# EAGLE library part XC2C64A-7VQG44I (library XC2C64A-7VQG44I)
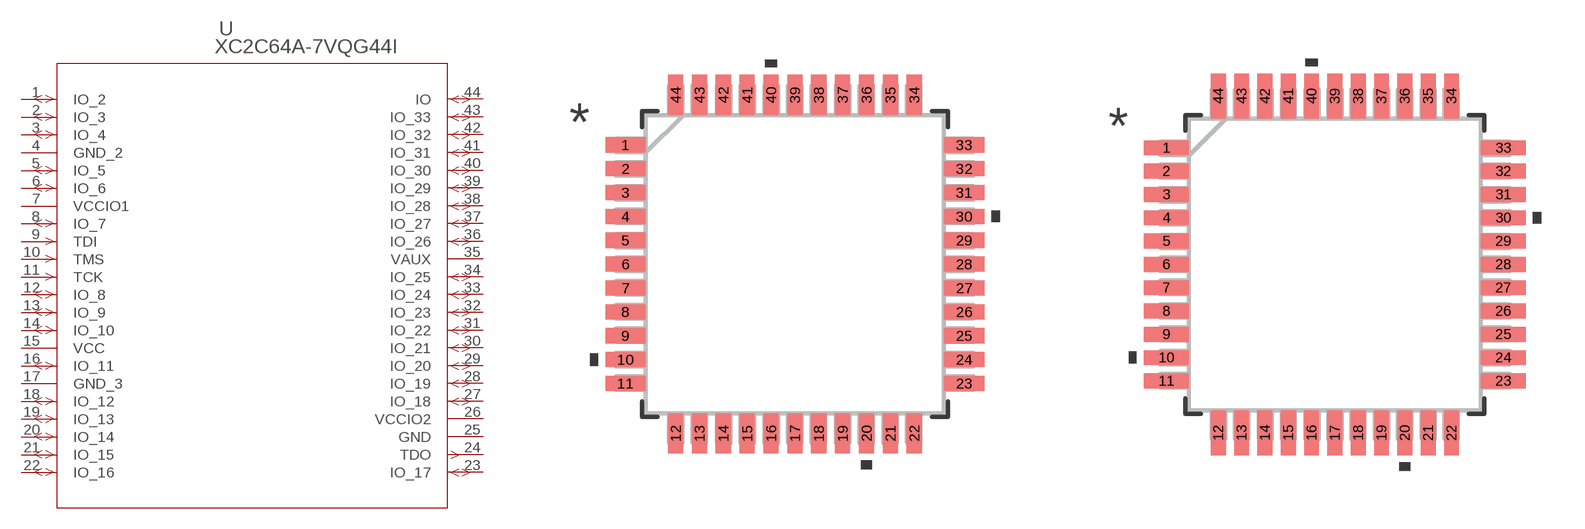
[diagram p0: symbol with the pads of 44-VQFP_XIL; footprints 44-VQFP_XIL, 44-VQFP_XIL-M]

Designator prefix U

## XC2C64A-7VQG44I (COPYRIGHT: Copyright (C) 2021 Ultra Librarian. All rights reserved.; DIGI-KEY_PART_NUMBER_1: 122-1708-ND; DIGI-KEY_PART_NUMBER_2: XLCC-1042-ND; DIGI-KEY_PART_NUMBER_3: XLCC-1061-ND; DIGI-KEY_PART_NUMBER_4: XLCC-1062-ND; DIGI-KEY_PART_NUMBER_5: XLCC-1065-ND; DIGI-KEY_PART_NUMBER_6: XLCC-1066-ND; MANUFACTURER_PART_NUMBER: XC2C64A-7VQG44I; MFR_NAME: Xilinx Inc)  [44-VQFP_XIL]
1  IO_2
2  IO_3
3  IO_4
4  GND_2  pwr
5  IO_5
6  IO_6
7  VCCIO1  pwr
8  IO_7
9  TDI  in
10  TMS  in
11  TCK  in
12  IO_8
13  IO_9
14  IO_10
15  VCC  pwr
16  IO_11
17  GND_3  pwr
18  IO_12
19  IO_13
20  IO_14
21  IO_15
22  IO_16
23  IO_17
24  TDO  out
25  GND  pwr
26  VCCIO2  pwr
27  IO_18
28  IO_19
29  IO_20
30  IO_21
31  IO_22
32  IO_23
33  IO_24
34  IO_25
35  VAUX  pwr
36  IO_26
37  IO_27
38  IO_28
39  IO_29
40  IO_30
41  IO_31
42  IO_32
43  IO_33
44  IO

## XC2C64A-7VQG44I44-VQFP_XIL-M (COPYRIGHT: Copyright (C) 2021 Ultra Librarian. All rights reserved.; DIGI-KEY_PART_NUMBER_1: 122-1708-ND; DIGI-KEY_PART_NUMBER_2: XLCC-1042-ND; DIGI-KEY_PART_NUMBER_3: XLCC-1061-ND; DIGI-KEY_PART_NUMBER_4: XLCC-1062-ND; DIGI-KEY_PART_NUMBER_5: XLCC-1065-ND; DIGI-KEY_PART_NUMBER_6: XLCC-1066-ND; MANUFACTURER_PART_NUMBER: XC2C64A-7VQG44I; MFR_NAME: Xilinx Inc)  [44-VQFP_XIL-M]
Pads as for 44-VQFP_XIL

## XC2C64A-7VQG44I44-VQFP_XIL-L (COPYRIGHT: Copyright (C) 2021 Ultra Librarian. All rights reserved.; DIGI-KEY_PART_NUMBER_1: 122-1708-ND; DIGI-KEY_PART_NUMBER_2: XLCC-1042-ND; DIGI-KEY_PART_NUMBER_3: XLCC-1061-ND; DIGI-KEY_PART_NUMBER_4: XLCC-1062-ND; DIGI-KEY_PART_NUMBER_5: XLCC-1065-ND; DIGI-KEY_PART_NUMBER_6: XLCC-1066-ND; MANUFACTURER_PART_NUMBER: XC2C64A-7VQG44I; MFR_NAME: Xilinx Inc)  [44-VQFP_XIL-L]
Pads as for 44-VQFP_XIL

## Footprint 44-VQFP_XIL (pad centres in mm)
smd 1.346 x 0.508: 1 -5.677,4; 2 -5.677,3.2; 3 -5.677,2.4; 4 -5.677,1.6; 5 -5.677,0.8; 6 -5.677,0; 7 -5.677,-0.8; 8 -5.677,-1.6; 9 -5.677,-2.4; 10 -5.677,-3.2; 11 -5.677,-4; 23 5.677,-4; 24 5.677,-3.2; 25 5.677,-2.4; 26 5.677,-1.6; 27 5.677,-0.8; 28 5.677,0; 29 5.677,0.8; 30 5.677,1.6; 31 5.677,2.4; 32 5.677,3.2; 33 5.677,4
smd 0.508 x 1.346: 12 -4,-5.677; 13 -3.2,-5.677; 14 -2.4,-5.677; 15 -1.6,-5.677; 16 -0.8,-5.677; 17 0,-5.677; 18 0.8,-5.677; 19 1.6,-5.677; 20 2.4,-5.677; 21 3.2,-5.677; 22 4,-5.677; 34 4,5.677; 35 3.2,5.677; 36 2.4,5.677; 37 1.6,5.677; 38 0.8,5.677; 39 0,5.677; 40 -0.8,5.677; 41 -1.6,5.677; 42 -2.4,5.677; 43 -3.2,5.677; 44 -4,5.677

## Footprint 44-VQFP_XIL-M (pad centres in mm)
smd 1.549 x 0.508: 1 -5.779,4; 2 -5.779,3.2; 3 -5.779,2.4; 4 -5.779,1.6; 5 -5.779,0.8; 6 -5.779,0; 7 -5.779,-0.8; 8 -5.779,-1.6; 9 -5.779,-2.4; 10 -5.779,-3.2; 11 -5.779,-4; 23 5.779,-4; 24 5.779,-3.2; 25 5.779,-2.4; 26 5.779,-1.6; 27 5.779,-0.8; 28 5.779,0; 29 5.779,0.8; 30 5.779,1.6; 31 5.779,2.4; 32 5.779,3.2; 33 5.779,4
smd 0.508 x 1.549: 12 -4,-5.779; 13 -3.2,-5.779; 14 -2.4,-5.779; 15 -1.6,-5.779; 16 -0.8,-5.779; 17 0,-5.779; 18 0.8,-5.779; 19 1.6,-5.779; 20 2.4,-5.779; 21 3.2,-5.779; 22 4,-5.779; 34 4,5.779; 35 3.2,5.779; 36 2.4,5.779; 37 1.6,5.779; 38 0.8,5.779; 39 0,5.779; 40 -0.8,5.779; 41 -1.6,5.779; 42 -2.4,5.779; 43 -3.2,5.779; 44 -4,5.779

## Footprint 44-VQFP_XIL-L (pad centres in mm)
smd 1.143 x 0.457: 1 -5.575,4; 2 -5.575,3.2; 3 -5.575,2.4; 4 -5.575,1.6; 5 -5.575,0.8; 6 -5.575,0; 7 -5.575,-0.8; 8 -5.575,-1.6; 9 -5.575,-2.4; 10 -5.575,-3.2; 11 -5.575,-4; 23 5.575,-4; 24 5.575,-3.2; 25 5.575,-2.4; 26 5.575,-1.6; 27 5.575,-0.8; 28 5.575,0; 29 5.575,0.8; 30 5.575,1.6; 31 5.575,2.4; 32 5.575,3.2; 33 5.575,4
smd 0.457 x 1.143: 12 -4,-5.575; 13 -3.2,-5.575; 14 -2.4,-5.575; 15 -1.6,-5.575; 16 -0.8,-5.575; 17 0,-5.575; 18 0.8,-5.575; 19 1.6,-5.575; 20 2.4,-5.575; 21 3.2,-5.575; 22 4,-5.575; 34 4,5.575; 35 3.2,5.575; 36 2.4,5.575; 37 1.6,5.575; 38 0.8,5.575; 39 0,5.575; 40 -0.8,5.575; 41 -1.6,5.575; 42 -2.4,5.575; 43 -3.2,5.575; 44 -4,5.575